# EAGLE library part LTC6910X (library ltc6910x)
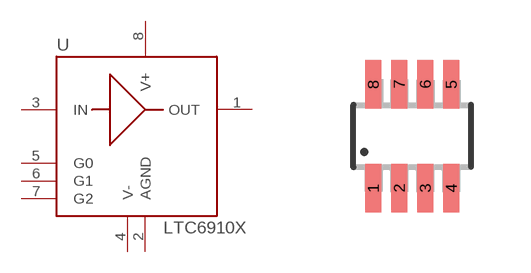
[diagram p0: symbol with the pads of TSOT23-8; footprint TSOT23-8]

Designator prefix U

## LTC6910X  [TSOT23-8]
1  OUT
2  AGND
3  IN
4  V-
5  G0
6  G1
7  G2
8  V+

## Footprint TSOT23-8 (pad centres in mm)
S6 Package 6-Lead Plastic TSOT-23 Source: http://cds.linear.com/docs/Datasheet/623012fb.pdf
smd 0.4 x 1.22: 1 -0.975,-1.3; 2 -0.325,-1.3; 3 0.325,-1.3; 4 0.975,-1.3; 5 0.975,1.3; 6 0.325,1.3; 7 -0.325,1.3; 8 -0.975,1.3